# Altium schematic symbol library Intercom Gen2 Main PCB.SCHLIB: 188 symbols (part 1 of 2)
Pins are listed as number, name and electrical type; pins without a type are passive.

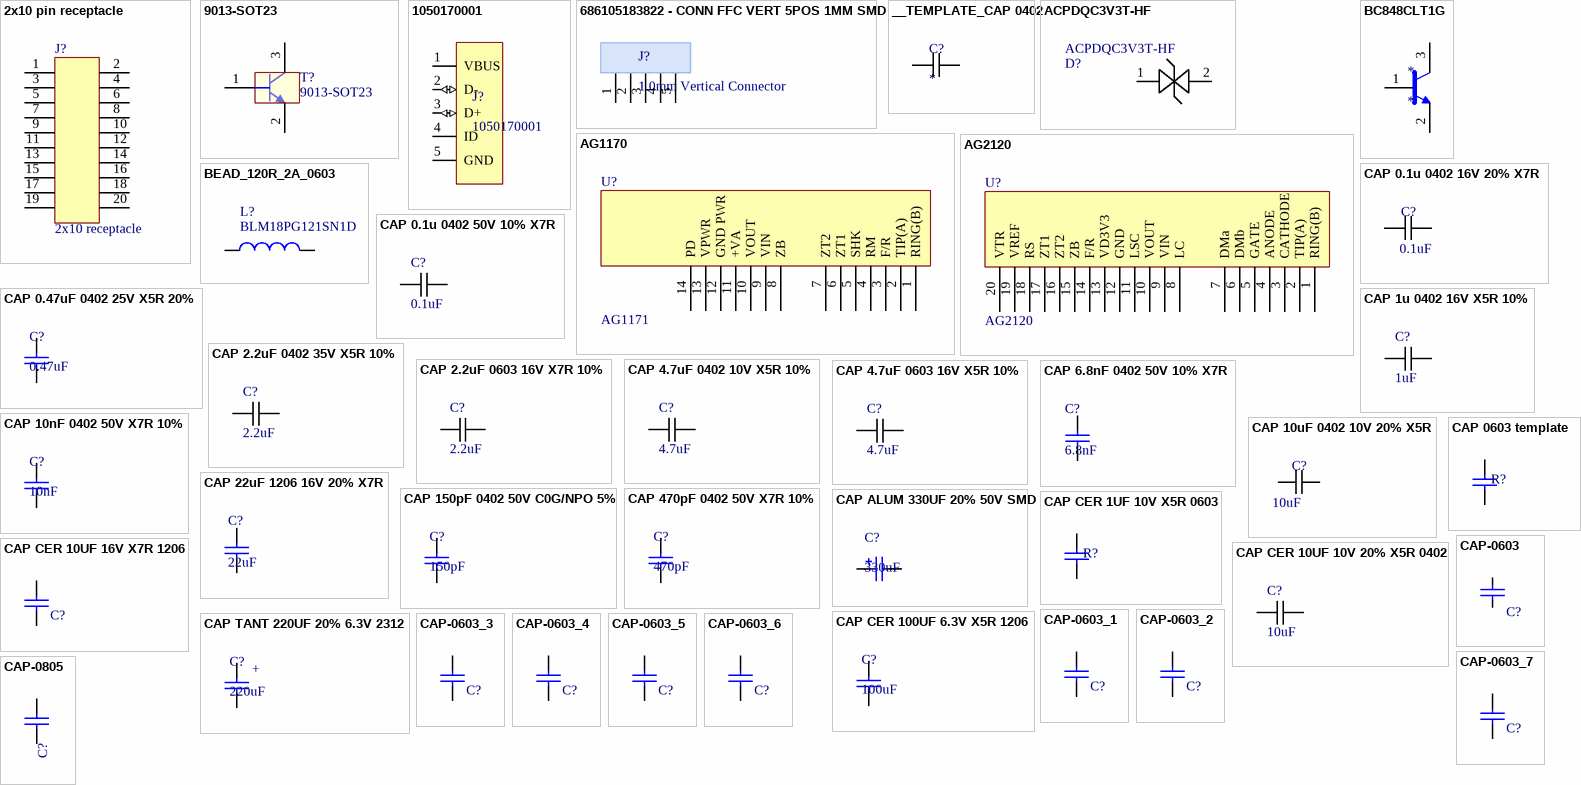
[diagram p0: symbols 2x10 pin receptacle to CAP-0805]

## 2x10 pin receptacle
designator J?, comment 2x10 receptacle
20 Position Receptacle Connector  Through Hole; Manufacturer:: 3M; Manufacturer Part#:: 929975-01-10-RK; Manufacturer Link:: http://multimedia.3m.com/mws/media/22500O/3mtm-boardmount-skt-100-100x-100strt-sldr-tails-ts0815.pdf; Value: 2x10 receptacle; Supplier 1: Digi-Key; Supplier 2: Mouser; Supplier Part Number 1: 929975E-01-10-ND; Supplier Part Number 2: 517-929975-01-10-RK
footprint 929975-01-10-RK (20 Position Receptacle Connector  Through Hole)
pins: 1, 2, 3, 4, 5, 6, 7, 8, 9, 10, 11, 12, 13, 14, 15, 16, 17, 18, 19, 20

## 9013-SOT23
designator T?
NPN Bipolar Transistor; Manuf_1: NXP; Manuf_Part_1: BSR14; Order: 1081310; ECCN_US/EU: EAR99/NEC; Revision: July-2002: Re-released for DXP Platform.; Distrib: FARNELL
simulation model NPN
footprint SOT23
footprint SOT-23
pins: 1 B, 2 E, 3 C

## 1050170001
designator J?
USB microB 5-Position  SMD, Right Angle; Manufacturer: Molex Inc; Manufacturer Part Number: 1050170001; Manufacturer Link: http://www.molex.com/pdm_docs/sd/1050170001_sd.pdf; Value: 1050170001; RoHS: Y; Temperature Range: -30°C ~ 85°C; Supplier 1: Digi-Key; Supplier 2: Mouser; Supplier Part Number 1: WM1399CT-ND; Supplier Part Number 2: 538-105017-0001
footprint 1050170001 (USB microB 5-Position, SMD, Right Angle)
footprint HS-1050170001 (USB microB 5-Position, SMD, Right Angle)
footprint HS-1050170001 - modified (USB microB 5-Position, SMD, Right Angle)
pins: 1 VBUS (power), 2 D- (io), 3 D+ (io), 4 ID, 5 GND (power)

## 686105183822 - CONN FFC VERT 5POS 1MM SMD
designator J?, comment 1.0mm Vertical Connector
5 Position FFC Connector Contacts, Vertical - 2 Sided 0.039" (1.00mm) Surface Mount; Manufacturer: Würth Elektronik; Value: 686105183822; Manufacturer Link: https://katalog.we-online.de/em/datasheet/686105183822.pdf; Manufacturer Part Number: 686105183822; RoHS: 3; Temperature Range: -25°C ~ 85°C; Supplier 1: Digi-Key; Supplier 2: Mouser; Supplier Part Number 1: 732-11357-1-ND; Supplier Part Number 2: 710-686105183822
footprint WR-FPC-SMT Vertical (Wurth Electronik Connector)
pins: 1, 2, 3, 4, 5

## __TEMPLATE_CAP 0402
designator C?
RoHS: Y; Value: *
footprint CAP_0402
footprint HS-CAP_0402
pins: 1, 2

## ACPDQC3V3T-HF
designator D?
TVS DIODE Bidir, ESD 30kV, Vwv=3.3V, VBr=3.6V, Vc=9.8V, Ipp=16A; Manufacturer: NXP Semiconductors; Manufacturer Part Number: ACPDQC3V3T-HF; Manufacturer Link: http://www.comchiptech.com/cms/UserFiles/ACPDQC3V3T-HF%20RevB352830.pdf; Supplier 1: Digi-Key; Supplier 2: Mouser; Value: ACPDQC3V3T-HF; Supplier Part Number 1: 641-1635-1-ND; Supplier Part Number 2: 750-ACPDQC3V3T-HF; RoHS: Yes; Temperature range °C: -40°C ~ 125°C
footprint SOD-923F_Bidir (0402C/SOD-923F 1mmx0.6mmx0.5mm)
footprint HS-SOD-923F_Bidir (0402C/SOD-923F 1mmx0.6mmx0.5mm)
pins: 1, 2

## AG1170
designator U?, comment AG1171
Interface Modules Ringing SLIC, low cost, SIL; Manufacturer: Silvertel; Value: AG1171; Manufacturer Link: https://www.mouser.ca/datasheet/2/1048/Ag1171-datasheet-Low-cost-ringing-SLIC-with-single-1804384.pdf; Manufacturer Part Number: AG1171; RoHS: *; Temperature Range: *; Supplier 1: Mouser; Supplier Part Number 1: 480-AG1171
footprint PHONE_AG1170_SLIC
pins: 1 RING(B), 2 TIP(A), 3 F/R, 4 RM, 5 SHK, 6 ZT1, 7 ZT2, 8 ZB, 9 VIN, 10 VOUT, 11 +VA, 12 GND PWR, 13 VPWR, 14 PD

## AG2120
designator U?
Interface Modules PSTN Interface; Manufacturer: Silvertel; Value: AG2120; Manufacturer Link: https://www.mouser.ca/datasheet/2/1048/Ag2120-datasheet-Full-feature-PSTN-interface-1804294.pdf; Manufacturer Part Number: AG2120; RoHS: *; Temperature Range: *; Supplier 1: Mouser; Supplier Part Number 1: 480-AG2120S
footprint PHONE_AG2120_PTSN
pins: 1 RING(B), 2 TIP(A), 3 CATHODE, 4 ANODE, 5 GATE, 6 DMb, 7 DMa, 8 LC, 9 VIN, 10 VOUT, 11 LSC, 12 GND, 13 VD3V3, 14 F/R, 15 ZB, 16 ZT2, 17 ZT1, 18 RS, 19 VREF, 20 VTR

## BC848CLT1G
designator *
Supplier 1: DigiKey; Supplier Part Number 1: BC848CLT1GOSDKR-ND; Supplier 2: Mouser; Supplier Part Number 2: 863-BC848CLT1G
footprint onSemi_SOT-23_N (Slightlly modified version of standard onSemi SOT−23 (TO−236) 2.90x1.30x1.00 1.90P footprint, pads slighly enlarged, medium courtyard / Reference: https://www.onsemi.com/pdf/datasheet/bc846alt1-d.pdf)
pins: 1 B, 2 E, 3 C

## BEAD_120R_2A_0603
designator L?, comment BLM18PG121SN1D
Bead,120R,2A,0603,BLM18PG121SN1D,MURATA; Manuf_Part_3: FCM1608KF-601T03; Manuf_2: TDK; Manuf_Part_2: MPZ1608S300A; Manuf_3: Tai-tech; Value: 100uH; Description_3: Bead,600R,350mA,0603,FCM1608KF-601T03,Tai-tech; Description_2: Bead,30R,5A,0603,MPZ1608S300A,TDK; Revision: July-2002: Re-released for DXP Platform.; ECCN_US/EU: n/a; Manuf_Part_1: BLM18PG121SN1D; Manuf_1: MURATA
footprint 0603 (Footprint not found)
footprint 0603L
pins: 1, 2

## CAP 0.1u 0402 16V 20% X7R
designator C?, comment 0.1uF
0.1µF ±20% 16V Ceramic Capacitor X7R 0402 (1005 Metric); Manufacturer: TDK Corporation; Manufacturer Part Number: CGA2B1X7R1C104M050BC; Manufacturer Link: https://product.tdk.com/info/en/catalog/datasheets/mlcc_automotive_general_en.pdf; RoHS: Y; Temperature Range: -55°C ~ 125°C; Supplier 1: Digi-Key; Supplier 2: Mouser; Supplier Part Number 1: 445-12242-1-ND; Supplier Part Number 2: 810-CGA2B1X7R1C104MC; Value: 0.1uF
footprint CAP_0402
footprint HS-CAP_0402
pins: 1, 2

## CAP 0.1u 0402 50V 10% X7R
designator C?, comment 0.1uF
0.1µF ±10% 50V Ceramic Capacitor X7R 0402 (1005 Metric); Manufacturer: Murata Electronics; Manufacturer Part Number: GCM155R71H104KE02D; Manufacturer Link: https://search.murata.co.jp/Ceramy/image/img/A01X/G101/ENG/GCM155R71H104KE02-01.pdf; Value: 0.1uF; Supplier 1: Digi-Key; Supplier 2: Mouser; Supplier Part Number 1: 490-10672-1-ND; Supplier Part Number 2: 81-GCM155R71H104KE2D; RoHS: Y; Temperature Range: -55°C ~ 125°C
footprint CAP_0402
footprint HS-CAP_0402
pins: 1, 2

## CAP 0.47uF 0402 25V X5R 20%
designator C?, comment 0.47uF
CAP CER 0.47UF 25V X5R 0402; Manufacturer: Murata Electronics; Manufacturer Part Number: GRT155R61E474ME01D; Manufacturer Link: https://search.murata.co.jp/Ceramy/image/img/A01X/G101/ENG/GRT155R61E474ME01-01.pdf; Value: 0.47uF; RoHS: 3; Temperature Range: -55°C ~ 85°C; Supplier 1: Digi-Key; Supplier 2: Mouser; Supplier Part Number 2: 81-GRT155R61E474ME1D; Supplier Part Number 1: 490-12270-1-ND
footprint CAP_0402
footprint HS-CAP_0402
pins: 1, 2

## CAP 1u 0402 16V X5R 10%
designator C?, comment 1uF
CAP 1u 0402 16V X5R 10%; Manufacturer: Samsung Electro-Mechanics; Manufacturer Part Number: CL05A105KO5NNNC; Manufacturer Link: https://media.digikey.com/pdf/Data%20Sheets/Samsung%20PDFs/CL05A105KO5NNNC_Spec_5-2-19.pdf; RoHS: ROHS3 Compliant; Temperature Range: -55°C ~ 85°C; Supplier 1: Digi-Key; Supplier 2: Newark; Supplier Part Number 1: 1276-1067-1-ND; Supplier Part Number 2: 82AC9182; Value: 1uF
footprint CAP_0402
footprint HS-CAP_0402
pins: 1, 2

## CAP 2.2uF 0402 35V X5R 10%
designator C?, comment 2.2uF
2.2µF ±10% 35V Ceramic Capacitor X5R 0402 (1005 Metric); Manufacturer: TDK; Manufacturer Part Number: C1005X5R1V225K050BC; Manufacturer Link: https://product.tdk.com/info/en/catalog/datasheets/mlcc_commercial_general_en.pdf; RoHS: ROHS3 Compliant; Temperature Range: -55°C ~ 85°C; Supplier 1: Digi-Key; Supplier 2: Mouser; Supplier Part Number 2: 810-C1005X5R1V225K; Value: 2.2uF; Supplier Part Number 1: 445-9028-1-ND
footprint CAP_0402
footprint HS-CAP_0402
pins: 1, 2

## CAP 2.2uF 0603 16V X7R 10%
designator C?, comment 2.2uF
2.2µF ±10% 16V Ceramic Capacitor X7R 0603 (1608 Metric); Manufacturer: Taiyo Yuden; Manufacturer Part Number: EMK107BB7225KA-T; Manufacturer Link: https://www.yuden.co.jp/productdata/catalog/mlcc06_e.pdf; RoHS: ROHS3 Compliant; Temperature Range: -55°C ~ 125°C; Value: 2.2uF; Supplier 1: Digi-Key; Supplier 2: Mouser; Supplier Part Number 1: 587-5835-1-ND; Supplier Part Number 2: 81-GRM188R71A225KE15
footprint Cap_0603_M (Yageo KEMET Maximum Density (Level A) Footprint, reference at pate centre. Datasheet: https://www.yageogroup.com/content/datasheet/asset/file/KEM_C1006_X5R_SMD)
footprint Cap_0603_N (Yageo KEMET Nominal Density Footprint using Nominal Land Protusion (Level B), reference at pate centre. Datasheet: https://www.yageogroup.com/content/datasheet/asset/file/KEM_C1006_X5R_SMD)
pins: 1, 2

## CAP 4.7uF 0402 10V X5R 10%
designator C?, comment 4.7uF
4.7µF ±10% 10V Ceramic Capacitor X5R 0402 (1005 Metric); Manufacturer: TDK Corporation; Manufacturer Part Number: C1005X5R1A475K050BC; Manufacturer Link: https://datasheet.datasheetarchive.com/originals/dk/DKDS-39/11099.pdf; RoHS: ROHS3 Compliant; Temperature Range: -55°C ~ 85°C; Supplier 1: Digi-Key; Supplier 2: Mouser; value: 4.7uF; Supplier Part Number 1: 445-13820-1-ND; Supplier Part Number 2: 810-C1005X5R1A475KBC
footprint CAP_0402
footprint HS-CAP_0402
footprint CAP_0402-HD (Chip Capacitor 0402 High Density)
pins: 1, 2

## CAP 4.7uF 0603 16V X5R 10%
designator C?, comment 4.7uF
4.7µF ±10% 16V Ceramic Capacitor X5R 0603 (1608 Metric); Manufacturer: Taiyo Yuden; Manufacturer Part Number: EMK107ABJ475KA-T; Manufacturer Link: https://www.yuden.co.jp/productdata/catalog/mlcc06_e.pdf; RoHS: ROHS3 Compliant; Temperature Range: -55°C ~ 85°C; Value: 4.7uF; Supplier 1: Digi-Key; Supplier 2: Mouser; Supplier Part Number 1: 587-2786-1-ND; Supplier Part Number 2: 963-EMK107ABJ475KA-T
footprint CAP-0603
pins: 1, 2

## CAP 6.8nF 0402 50V 10% X7R
designator C?, comment 6.8nF
6800pF ±10% 50V Ceramic Capacitor X7R 0402 (1005 Metric); Manufacturer: Yageo; Manufacturer Part Number: CC0402KRX7R9BB682; Manufacturer Link: https://www.yageo.com/upload/media/product/productsearch/datasheet/mlcc/UPY-GPHC_X7R_6.3V-to-50V_18.pdf; Value: 6.8nF; RoHS: 3; Temperature Range: -55°C ~ 125°C; Supplier 1: Digi-Key; Supplier 2: Mouser; Supplier Part Number 1: 311-1726-1-ND; Supplier Part Number 2: 603-CC402KRX7R9BB682
footprint CAP_0402
footprint HS-CAP_0402
pins: 1, 2

## CAP 10nF 0402 50V X7R 10%
designator C?, comment 10nF
10000pF ±10% 50V Ceramic Capacitor X7R 0402 (1005 Metric); Manufacturer: Yageo; Manufacturer Part Number: CC0402KRX7R9BB103; Manufacturer Link: https://www.yageo.com/upload/media/product/productsearch/datasheet/mlcc/UPY-GPHC_X7R_6.3V-to-50V_18.pdf; Value: 10nF; RoHS: 3; Temperature Range: -55°C ~ 125°C; Supplier 1: Digi-Key; Supplier 2: Mouser; Supplier Part Number 1: 311-1349-1-ND; Supplier Part Number 2: 603-CC402KRX7R9BB103
footprint CAP_0402
footprint HS-CAP_0402
pins: 1, 2

## CAP 10uF 0402 10V 20% X5R
designator C?, comment 10uF
CAP CER 10UF 10V 20% X5R 0402; Manufacturer: Samsung Electro-Mechanics America, Inc; Manufacturer Part Number: CL05A106MP5NUNC; Manufacturer Link: http://www.digikey.ca/product-search/en?pv7=2&pv14=4&FV=fff40002%2Cfff8000b&k=10uF+0402&mnonly=0&newproducts=0&ColumnSort=0&page=1&stock=1&quantity=0&ptm=0&fid=0&pageSize=25; Supplier 1: Digi-Key; Supplier 2: Future Electronics; Supplier Part Number 1: 1276-1450-1-ND; Supplier Part Number 2: CL05A106MP5NUNC-CUTT; Temperature Range: -55°C ~ 85°C; RoHS: ROHS3 Compliant; Value: 10uF
footprint CAP_0402
footprint HS-CAP_0402
footprint CAP_0402-HD (Chip Capacitor 0402 High Density)
pins: 1, 2

## CAP 22uF 1206 16V 20% X7R
designator C?, comment 22uF
22µF ±20% 16V Ceramic Capacitor X7R 1206 (3216 Metric); Manufacturer: Taiyo Yuden; Manufacturer Part Number: EMK316BB7226ML-T; Manufacturer Link: http://ds.yuden.co.jp/TYCOMPAS/ut/detail.do?productNo=EMK316BB7226ML-T&fileName=EMK316BB7226ML-T_SS&mode=specSheetDownload; Value: 22uF; Supplier 1: Digi-Key; Supplier Part Number 1: 587-4319-1-ND; Supplier 2: Arrow; Supplier Part Number 2: EMK316BB7226ML-T**MULT1; Temperature Range: -55°C ~ 125°C
footprint CAP-1206
pins: 1, 2

## CAP 150pF 0402 50V C0G/NPO 5%
designator C?, comment 150pF
150pF ±5% 50V Ceramic Capacitor C0G, NP0 0402 (1005 Metric); Manufacturer: Yageo; Manufacturer Part Number: CC0402JRNPO9BN151; Manufacturer Link: https://www.yageo.com/upload/media/product/productsearch/datasheet/mlcc/UPY-GP_NP0_16V-to-50V_18.pdf; Value: 150pF; RoHS: 3; Temperature Range: -55°C ~ 125°C; Supplier 1: Digi-Key; Supplier 2: Mouser; Supplier Part Number 1: 311-1025-1-ND; Supplier Part Number 2: 603-CC402JRNPO9BN151
footprint CAP_0402
footprint HS-CAP_0402
pins: 1, 2

## CAP 470pF 0402 50V X7R 10%
designator C?, comment 470pF
470pF ±10% 50V Ceramic Capacitor X7R 0402 (1005 Metric); Manufacturer: Yageo; Manufacturer Part Number: CC0402KRX7R9BB471; Manufacturer Link: https://www.yageo.com/upload/media/product/productsearch/datasheet/mlcc/UPY-GPHC_X7R_6.3V-to-50V_18.pdf; Value: 470pF; RoHS: 3; Temperature Range: -55°C ~ 125°C; Supplier 1: Digi-Key; Supplier 2: Mouser; Supplier Part Number 1: 311-1028-1-ND; Supplier Part Number 2: 603-CC402KRX7R9BB471
footprint CAP_0402
footprint HS-CAP_0402
pins: 1, 2

## CAP 0603 template
designator R?
footprint CAP-0603
pins: 1, 2

## CAP ALUM 330UF 20% 50V SMD
designator C?, comment 330uF
330µF 50V Aluminum Electrolytic Capacitors Radial, Can - SMD 120mOhm @ 100kHz 5000 Hrs @ 105°C; Manufacturer: Panasonic Electronic Components; Manufacturer Part Number: EEE-FT1H331GP; Manufacturer Link: https://b2b-api.panasonic.eu/file_stream/pids/fileversion/3127; Value: 330uF; RoHS: 3; Temperature Range: -55°C ~ 105°C; Supplier 1: Digi-Key; Supplier Part Number 1: 732-8514-1-ND
footprint CAP ALUM 330UF 20% 50V SMD
pins: 1, 2

## CAP CER 1UF 10V X5R 0603
designator R?, comment 1uF  (value not drawn)
1µF ±10% 10V Ceramic Capacitor X5R 0603 (1608 Metric); Manufacturer: Samsung Electro-Mechanics; Manufacturer Part Number: CL10A105KP8NNNC; Value: 1uF; Manufacturer Link: http://weblib.samsungsem.com/mlcc/mlcc-ec-data-sheet.do?partNumber=CL10A105KP8NNN; RoHS: 3; Temperature Range: -55°C ~ 85°C; Supplier 1: Digi-Key; Supplier 2: Future Electronics; Supplier Part Number 1: 1276-1182-1-ND; Supplier Part Number 2: 2588283
footprint CAP-0603
pins: 1, 2

## CAP CER 10UF 10V 20% X5R 0402
designator C?, comment 10uF
CAP CER 10UF 10V 20% X5R 0402; Manufacturer: Samsung Electro-Mechanics America, Inc; Manufacturer Part Number: CL05A106MP5NUNC; Manufacturer Link: http://www.digikey.ca/product-search/en?pv7=2&pv14=4&FV=fff40002%2Cfff8000b&k=10uF+0402&mnonly=0&newproducts=0&ColumnSort=0&page=1&stock=1&quantity=0&ptm=0&fid=0&pageSize=25; Supplier 1: Digi-Key; Supplier Part Number 1: 1276-1450-1-ND; Value: 10uF
footprint CAP_0402
footprint HS-CAP_0402
pins: 1, 2

## CAP CER 10UF 16V X7R 1206
designator C?, comment 10uF  (value not drawn)
10µF ±20% 16V Ceramic Capacitor X7R 1206 (3216 Metric); Manufacturer: Samsung Electro-Mechanics; Manufacturer Part Number: CL31B106MOHNNNE; Value: 10uF; Manufacturer Link: https://media.digikey.com/pdf/Data%20Sheets/Samsung%20PDFs/CL_Series_MLCC_ds.pdf; RoHS: 3; Temperature Range: -55°C ~ 125°C; Supplier 1: Digi-Key; Supplier 2: Future Electronics; Supplier Part Number 1: 1276-6641-1-ND; Supplier Part Number 2: 2114712
footprint CAP-1206
pins: 1, 2

## CAP CER 100UF 6.3V X5R 1206
designator C?, comment 100uF
100µF ±20% 6.3V Ceramic Capacitor X5R 1206 (3216 Metric); Manufacturer: Murata Electronics; Manufacturer Part Number: GRM31CR60J107ME39K; Manufacturer Link: https://www.murata.com/~/media/webrenewal/support/library/catalog/products/capacitor/mlcc/c02e.ashx?la=en-us; Value: 100uF; RoHS: 3; Temperature Range: -55°C ~ 85°C; Supplier 1: Digi-Key; Supplier 2: Mouser; Supplier Part Number 1: 490-7217-1-ND; Supplier Part Number 2: 81-GRM31CR60J107ME9K
footprint CAP-1206
pins: 1, 2

## CAP TANT 220UF 20% 6.3V 2312
designator C?, comment 220uF
220µF Molded Tantalum Capacitors 6.3V 2312 (6032 Metric) 1.2Ohm; Manufacturer: KEMET; Manufacturer Part Number: T491C227M006AT; Manufacturer Link: https://api.kemet.com/component-edge/download/datasheet/T491C227M006AT.pdf; Value: 220uF; RoHS: 3; Temperature Range: -55°C ~ 125°C; Supplier 1: Digi-Key; Supplier 2: Mouser; Supplier Part Number 1: 399-3748-1-ND; Supplier Part Number 2: 80-T491C227M006
footprint KEMET TANT Size C - 2312 (Molded Capacitor, 2-Leads, Body 6.00x3.20mm, IPC Low Density)
pins: 1, 2
text: +

## CAP-0603
designator C?  (value not drawn)
Value: 6.8nF
footprint RES-0402
footprint CAP-0603
footprint CAP-0603
footprint CAP-0603
pins: 1, 2

## CAP-0603_1
designator C?, comment CAP-0603  (value not drawn)
Value: 150pF
footprint RES-0402
footprint CAP-0603
footprint CAP-0603
footprint CAP-0603
pins: 1, 2

## CAP-0603_2
designator C?, comment CAP-0603  (value not drawn)
Value: 100nF
footprint RES-0402
footprint CAP-0603
footprint CAP-0603
footprint CAP-0603
pins: 1, 2

## CAP-0603_3
designator C?, comment CAP-0603  (value not drawn)
Value: 10nF
footprint RES-0402
footprint CAP-0603
footprint CAP-0603
footprint CAP-0603
pins: 1, 2

## CAP-0603_4
designator C?, comment CAP-0603  (value not drawn)
Value: 2.2uF
footprint RES-0402
footprint CAP-0603
footprint CAP-0603
footprint CAP-0603
pins: 1, 2

## CAP-0603_5
designator C?, comment CAP-0603  (value not drawn)
Value: 0.47uF
footprint RES-0402
footprint CAP-0603
footprint CAP-0603
footprint CAP-0603
pins: 1, 2

## CAP-0603_6
designator C?, comment CAP-0603  (value not drawn)
Value: 470pF
footprint RES-0402
footprint CAP-0603
footprint CAP-0603
footprint CAP-0603
pins: 1, 2

## CAP-0603_7
designator C?, comment CAP-0603  (value not drawn)
Value: 1uF
footprint RES-0402
footprint CAP-0603
footprint CAP-0603
footprint CAP-0603
pins: 1, 2

## CAP-0805
designator C?  (value not drawn)
VALUE: 10uF
footprint CAP-0805
pins: 1, 2

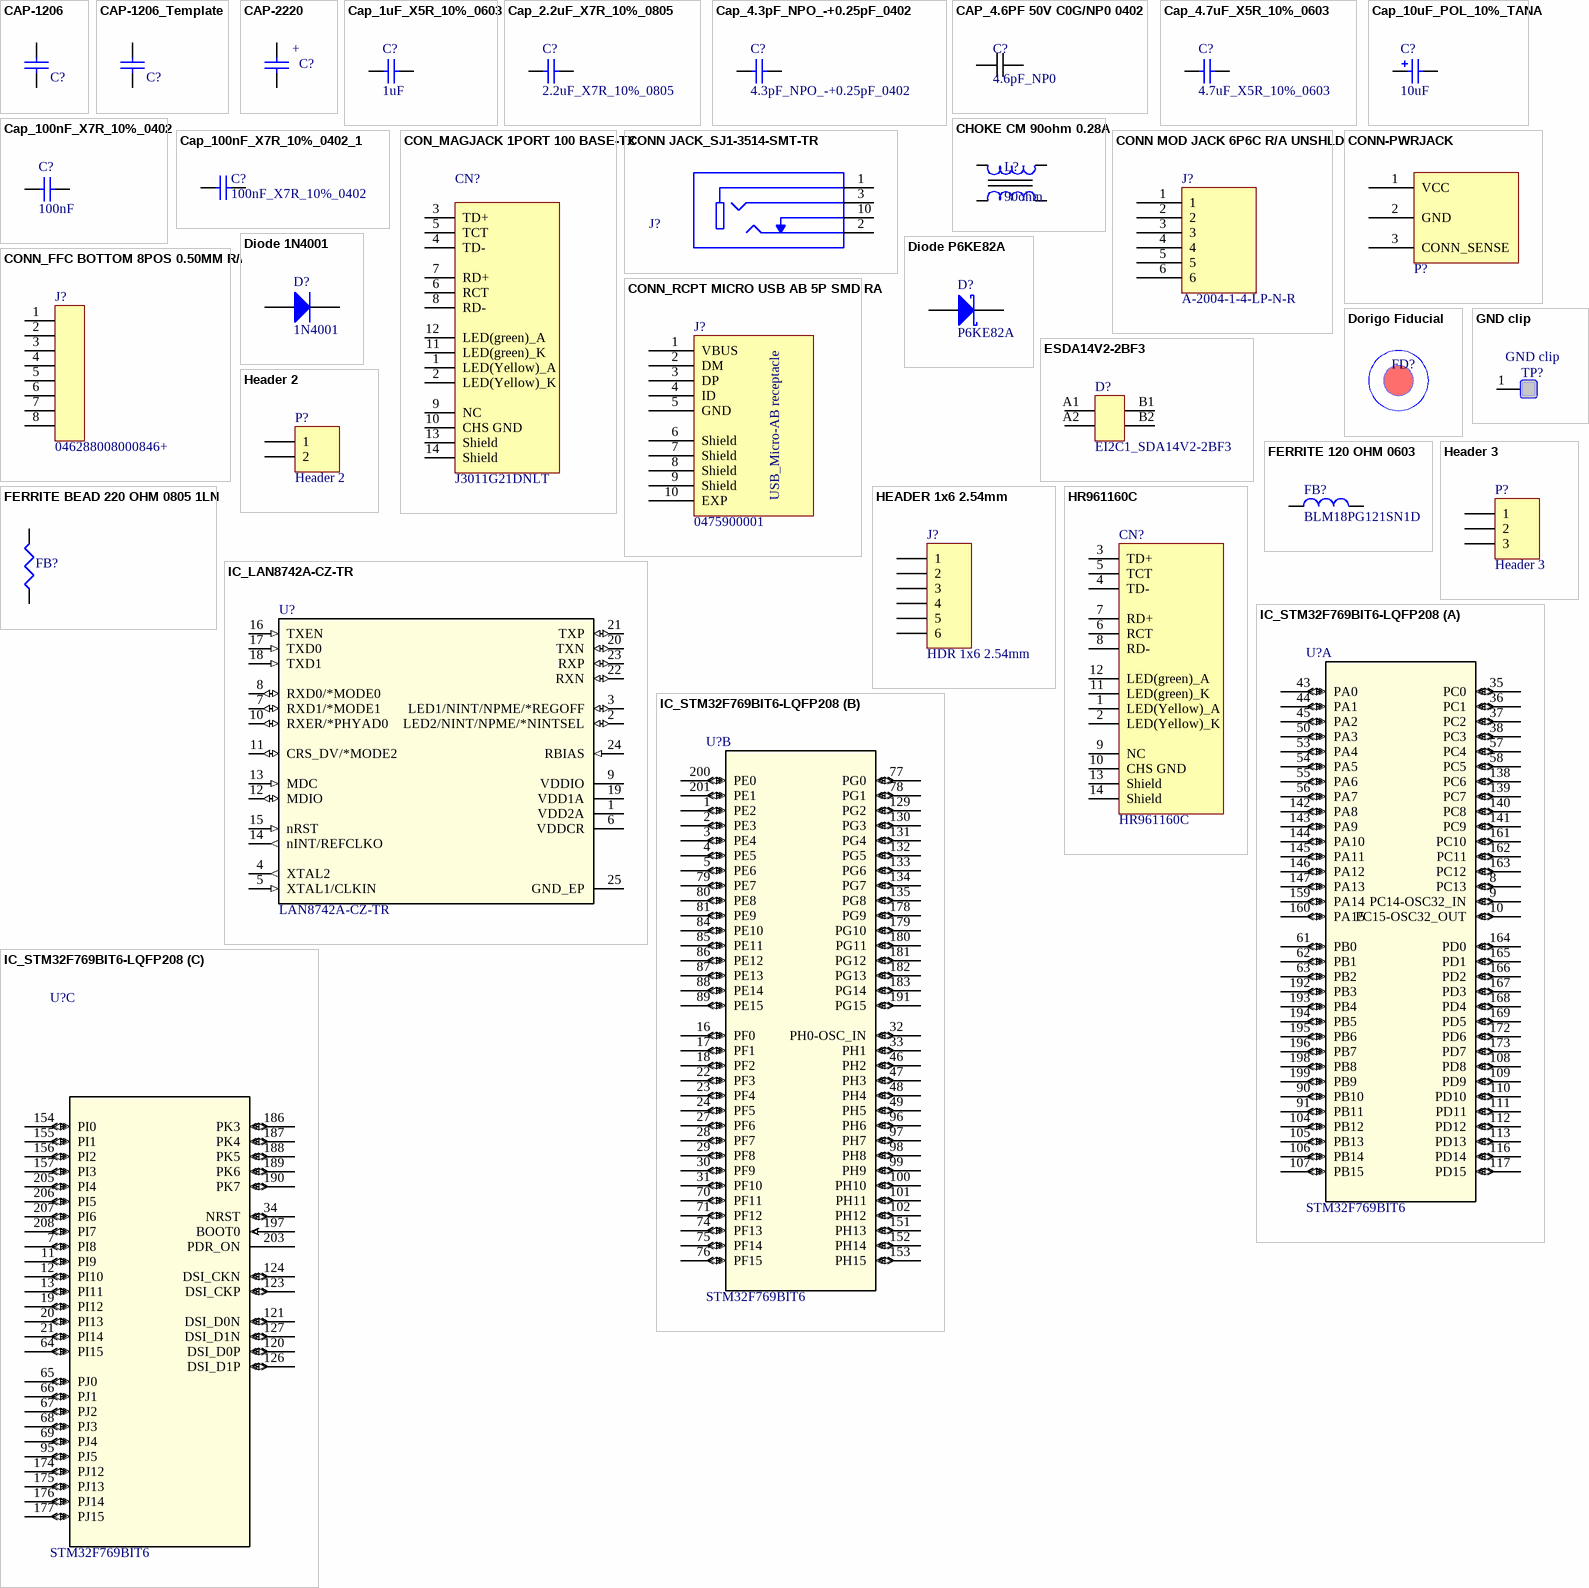
[diagram p1: symbols CAP-1206 to IC_STM32F769BIT6-LQFP208]

## CAP-1206
designator C?  (value not drawn)
VALUE: 22uF
footprint CAP-1206
pins: 1, 2

## CAP-1206_Template
designator C?  (value not drawn)
Value: *; Manufacturer: *; Manufacturer Link: *; Manufacturer Part Number: *; RoHS: *; Temperature Range: *
footprint CAP-1206
pins: 1, 2

## CAP-2220
designator C?
pins: 1, 2
text: +

## Cap_1uF_X5R_10%_0603
designator C?, comment 1uF
Capacitor,1uF,16V,X5R,10%,0603,YAGEO; Manuf_Part_1: CC0603KRX5R7BB105; Revision: July-2002: Re-released for DXP Platform.; Value: 1uF; Order: CC0603KRX5R7BB105; Manuf_1: YAGEO; ECCN_US/EU: n/a
simulation model CAP (Capacitor)
signal-integrity model Cap
footprint 0603C
pins: 1, 2

## Cap_2.2uF_X7R_10%_0805
designator C?, comment 2.2uF_X7R_10%_0805
Capacitor,2.2uF,16V, X7R,10%,0805,YAGEO; Manuf_Part_1: CC0805KKX7R7BB225; Revision: July-2002: Re-released for DXP Platform.; Value: 2.2uF; Order: CC0805KKX7R7BB225; Manuf_1: YAGEO; ECCN_US/EU: n/a
simulation model CAP (Capacitor)
signal-integrity model Cap
footprint 0805C
footprint TAN-A
pins: 1, 2

## Cap_4.3pF_NPO_-+0.25pF_0402
designator C?, comment 4.3pF_NPO_-+0.25pF_0402
Capacitor, 4.3pF, 16V, NPO, -+0.25pF, 0402, KEMET; Manuf_1: AVX; Manuf_Part_1: C0402C439C4GACTU; Order: C0402C439C4GACTU-ND; Revision: July-2002: Re-released for DXP Platform.; Value: 4.3pF; ECCN_US/EU: n/a; Distrib: DIGIKEY
simulation model CAP (Capacitor)
signal-integrity model Cap
footprint 0402C
pins: 1, 2

## CAP_4.6PF 50V C0G/NP0 0402
designator C?, comment 4.6pF_NP0
4.6pF ±0.25pF 50V Ceramic Capacitor C0G, NP0 0402 (1005 Metric); Manufacturer: Murata Electronics; Manufacturer Part Number: GCQ1555C1H4R6CB01D; Manufacturer Link: https://search.murata.co.jp/Ceramy/image/img/A01X/G101/ENG/GCQ1555C1H4R6CB01-01.pdf; RoHS: ROHS3 Compliant; Temperature Range: -55°C~125°C; Supplier 1: Digi-Key; Supplier 2: Mouser; Supplier Part Number 1: 490-17479-1-ND; Supplier Part Number 2: 81-GCQ1555C1H4R6CB1D; Value: 4.6pF_NP0
footprint CAP_0402
footprint HS-CAP_0402
pins: 1, 2

## Cap_4.7uF_X5R_10%_0603
designator C?, comment 4.7uF_X5R_10%_0603
Capacitor,4.7uF,16V, X5R,10%,0603,YAGEO; Manuf_Part_1: CC0603KRX5R7BB475; Order: CC0603KRX5R7BB105; Revision: July-2002: Re-released for DXP Platform.; Value: 4.7uF; Manuf_1: YAGEO; ECCN_US/EU: n/a
simulation model CAP (Capacitor)
signal-integrity model Cap
footprint 0603C
pins: 1, 2

## Cap_10uF_POL_10%_TANA
designator C?, comment 10uF
Polarized Capacitor,10uF,10V,10%,typeA,VISHAY; Manuf_Part_1: 293D106X9010A2TE3; Revision: July-2002: Re-released for DXP Platform.; Value: 10uF; Manuf_1: VISHAY; Order: *; ECCN_US/EU: n/a
simulation model CAP (Capacitor)
signal-integrity model C200M
footprint TAN-A
pins: 1, 2

## Cap_100nF_X7R_10%_0402
designator C?, comment 100nF
Capacitor,100nF,16V,X7R,10%,0402,YAGEO; Manuf_Part_1: CC0402KRX7R7BB104; Revision: July-2002: Re-released for DXP Platform.; Value: 100nF; Order: CC0402KRX7R7BB104; Manuf_1: YAGEO
simulation model CAP (Capacitor)
signal-integrity model Cap
footprint 0402C
pins: 1, 2

## Cap_100nF_X7R_10%_0402_1
designator C?, comment 100nF_X7R_10%_0402
Capacitor,100nF,16V,X7R,10%,0402,YAGEO; Manuf_Part_1: CC0402KRX7R7BB104; Revision: July-2002: Re-released for DXP Platform.; Value: 100nF; Order: CC0402KRX7R7BB104; Manuf_1: YAGEO; ECCN_US/EU: n/a
simulation model CAP (Capacitor)
signal-integrity model Cap
footprint 0402C
pins: 1, 2

## CHOKE CM 90ohm 0.28A
designator L?, comment 90ohm
CHOKE CM 90ohm 0.28A; Manufacturer: Murata; Manufacturer Part Number: DLW21SZ900HQ2L; Manufacturer Link: https://www.murata.com/~/media/webrenewal/support/library/catalog/products/emc/emifil/c51e.ashx; Value: 90ohm; Supplier 1: Digi-Key; Supplier 2: Mouser; Supplier Part Number 1: 490-14402-1-ND; Supplier Part Number 2: 81-DLW21SZ900HQ2L
footprint CHOKE CM 500ohm 0.3A
footprint HS-CHOKE CM 500ohm 0.3A
pins: 1, 2, 3, 4

## CON_MAGJACK 1PORT 100 BASE-TX
designator CN?, comment J3011G21DNLT
1 Port RJ45 Magjack Connector Surface Mount 10/100 Base-TX, AutoMDIX; Manufacturer: Pulse Electronics Network; Manufacturer Part Number: J3011G21DNLT; Manufacturer Link: https://productfinder.pulseeng.com/productSearch/J3011G21DNLT; Value: J3011G21DNLT; RoHS: Y; Temperature Range: 0°C ~ 70°C; Supplier 1: Digi-Key; Supplier 2: Mouser; Supplier Part Number 1: 553-1763-1-ND; Supplier Part Number 2: 673-J3011G21DNLT
footprint CON_RJ45_J3011G21DNLT (Pulse J3 Series)
pins: 1 LED(Yellow)_A, 2 LED(Yellow)_K, 3 TD+, 4 TD-, 5 TCT, 6 RCT, 7 RD+, 8 RD-, 9 NC, 10 CHS GND, 11 LED(green)_K, 12 LED(green)_A, 13 Shield, 14 Shield

## CONN JACK_SJ1-3514-SMT-TR
designator J?, comment SJ1-3514-SMT-TR  (value not drawn)
CONN JACK STEREO 3.5MM SMD R/A; Manufacturer: CUI Devices; Value: SJ1-3514-SMT-TR; Manufacturer Link: https://www.cuidevices.com/product/resource/digikeypdf/sj1-351x-smt.pdf; Manufacturer Part Number: SJ1-3514-SMT-TR; RoHS: Y; Temperature Range: -25°C ~ 85°C; Supplier 1: Digi-Key; Supplier 2: Mouser; Supplier Part Number 1: CP1-3514SJCT-ND; Supplier Part Number 2: 490-SJ1-3514-SMT-TR
footprint CUI_SJ1-3514-SMT (CONN JACK STEREO 3.5MM SMD R/A)
pins: 1, 2, 3, 10

## CONN MOD JACK 6P6C R/A UNSHLD
designator J?, comment A-2004-1-4-LP-N-R
Jack Modular Connector 6p6c (RJ11, RJ12, RJ14, RJ25) 90° Angle (Right) Unshielded; Manufacturer: Assmann WSW Components; Value: A-2004-1-4-LP-N-R; Manufacturer Link: http://www.assmann-wsw.com/fileadmin/datasheets/ASS_7320_CO.pdf; Manufacturer Part Number: A-2004-1-4-LP-N-R; RoHS: 3; Temperature Range: -40°C ~ 85°C; Supplier 1: Digi-Key; Supplier 2: Future Electronics; Supplier Part Number 1: AE10383-ND; Supplier Part Number 2: 4074972
footprint A-2004-0-x-N (RJ11)
pins: 1, 2, 3, 4, 5, 6

## CONN-PWRJACK
designator P?, comment PJ-066A  (value not drawn)
Power Barrel Connector Jack 2.10mm ID (0.083"), 5.50mm OD (0.217") Panel Mount, Through Hole, Right Angle; Manufacturer: CUI Devices; Value: PJ-066A; Manufacturer Link: https://www.cuidevices.com/product/resource/digikeypdf/pj-066a.pdf; Manufacturer Part Number: PJ-066A; RoHS: Y; Temperature Range: -25°C ~ 70°C; Supplier 1: Digi-Key; Supplier 2: Mouser; Supplier Part Number 1: CP-066A-ND; Supplier Part Number 2: 490-PJ-066A
footprint CONN-PWRJACK-2.1X5.5X9.5MM-RA-TH (Right Angle Power Jack)
footprint CONN-PWRJACK-2.1X5.5X9.5MM-RA-TH-PJ-0066 (Right Angle Power Jack)
pins: 1 VCC, 2 GND, 3 CONN_SENSE

## CONN_FFC BOTTOM 8POS 0.50MM R/A
designator J?, comment 046288008000846+
8 Position FFC, FPC Connector Contacts, Bottom 0.020" (0.50mm) Surface Mount, Right Angle; Manufacturer: Kyocera International Inc. Electronic Components; Manufacturer Part Number: 046288008000846+; Manufacturer Link: https://global.kyocera.com/prdct/electro/product/pdf/6288.pdf; Value: 046288008000846+; RoHS: Y; Temperature Range: -40°C~105°C; Supplier 1: Digi-Key; Supplier 2: Mouser; Supplier Part Number 1: 478-5454-1-ND; Supplier Part Number 2: 581-046288008000846+
footprint CON_046288008000846+ (Kyocera ZIF, 0.5mm, 8 contacts, bottom)
footprint HS-CON_046288008000846+ (Kyocera ZIF, 0.5mm, 8 contacts, bottom)
pins: 1, 2, 3, 4, 5, 6, 7, 8 0

## CONN_RCPT MICRO USB AB 5P SMD RA
designator J?, comment 0475900001
USB - micro AB  Receptacle Connector 5 Position Surface Mount, Right Angle; Through Hole; Manufacturer: Molex; Manufacturer Part Number: 0475900001; Manufacturer Link: https://www.molex.com/pdm_docs/sd/475900001_sd.pdf; Value: 0475900001; RoHS: ROHS3 Compliant; Temperature Range: -35°C ~ 85°C; Supplier 1: Digi-Key; Supplier 2: Newark; Supplier Part Number 1: WM17144CT-ND; Supplier Part Number 2: 40P3750
footprint CON_USBMICROAB_MOLEX_47590-0001_H3
pins: 1 VBUS, 2 DM, 3 DP, 4 ID, 5 GND, 6 Shield, 7 Shield, 8 Shield, 9 Shield, 10 EXP
text: USB_Micro-AB receptacle

## Diode 1N4001
designator D?, comment 1N4001
Diode Standard 50V 1A Through Hole DO-41; Manufacturer: Comchip Technology; Manufacturer Part Number: 1N4001-G; Value: 1N4001; Manufacturer Link: https://www.comchiptech.com/admin/files/product/1N4001-G%20Thru.%201N4007-G%20RevB.pdf; RoHS: 3; Temperature Range: -55°C ~ 150°C; Supplier 1: Digi-Key; Supplier 2: Mouser; Supplier Part Number 1: 641-1310-1-ND; Supplier Part Number 2: 750-1N4001-G
footprint DO-41 (Diode, Axial; Body 5.2 x 2.7 mm (LxDia. max), Lead Dia. 0.86 mm (max))
simulation model 1N4001 (DIODE)
signal-integrity model 1N4001
pins: 1 A, 2 K

## Diode P6KE82A
designator D?, comment P6KE82A
DIODE,  TVS,  8.2V,  600W,  2DO-15; Manufacturer: Taiwan Semiconductor; Manufacturer Part Number: P6KE82A; RoHS: 3; Value: P6KE82A; Temperature Range: -55°C ~ 175°C; Manufacturer Link: https://www.taiwansemi.com/products/datasheet/P6KE%20SERIES_M1602.pdf; Supplier 1: Digi-Key; Supplier 2: Mouser; Supplier Part Number 1: P6KE82AFSCT-ND; Supplier Part Number 2: 821-P6KE8.2A
footprint DO-204AL (Diode, Axial; Body 5.2 x 2.7 mm (LxDia. max), Lead Dia. 0.86 mm (max))
simulation model 11DQ03 (DIODE)
pins: 1 A, 2 K

## Dorigo Fiducial
designator FD?  (no BOM)
0.5mm diameter + 0.5mm solder mask clearance
footprint Fiducial_Dorigo (0.5mm diameter + 0.5mm solder mask clearance)

## ESDA14V2-2BF3
designator D?, comment EI2C1_SDA14V2-2BF3
Quad bidirectional Transil array for ESD protection; Manuf_1: STM; Manuf_Part_1: ESDA14V2-2BF3; ECCN_US/EU: EAR99/NEC; Provided: ST; Ref St: 9179040; Distrib: ST
footprint BGA4_1X1 (Footprint not found)
footprint BGA4_0R4_0R8X0R8
pins: A1, A2, B1, B2

## FERRITE 120 OHM 0603
designator FB?, comment BLM18PG121SN1D
120 Ohms @ 100MHz 1 Power Line Ferrite Bead 0603 (1608 Metric) 2A 50mOhm; Manufacturer: Murata Electronics; Manufacturer Part Number: BLM18PG121SN1D; Manufacturer Link: https://www.murata.com/en-us/products/productdata/8796738650142/ENFA0003.pdf; Value: BLM18PG121SN1D; RoHS: ROHS3 Compliant; Temperature Range: -55°C ~ 125°C; Supplier 1: Digi-Key; Supplier 2: Mouser; Supplier Part Number 1: 490-1038-1-ND; Supplier Part Number 2: 81-BLM21AG121SN1D
footprint IND_BLM18P-0603 (Ferrite Bead-0603)
pins: 1, 2

## FERRITE BEAD 220 OHM 0805 1LN
designator FB?, comment 220R 3A  (value not drawn)
220 Ohms @ 100MHz 1 Power Line Ferrite Bead 0805 (2012 Metric) 3A 40mOhm; Manufacturer: TDK Corporation; Manufacturer Part Number: MPZ2012S221AT000; Value: 220R 3A; Manufacturer Link: https://product.tdk.com/info/en/catalog/datasheets/beads_commercial_power_mpz2012_en.pdf?ref_disty=digikey; RoHS: 3; Temperature Range: -55°C ~ 125°C; Supplier 1: Digi-Key; Supplier Part Number 1: 240-2392-1-ND
footprint FB_0805 (Designed for MI0805M221R-10, Maximum density courtyard. Datasheet:https://www.laird.com/sites/default/files/mi0805m221r-10-datasheet.pdf)
pins: 1, 2

## GND clip
designator TP?
PC Test Point, Compact Phosphor Bronze, Silver Plating Surface Mount Mounting Type; Manufacturer: Keystone Electronics; Manufacturer Part Number: 5016; Manufacturer Link: https://www.keyelco.com/userAssets/file/M65p55.pdf; RoHS: Y; Supplier 1: Digi-Key; Supplier 2: Mouser; Supplier Part Number 1: 36-5016CT-ND; Supplier Part Number 2: 534-5016; Value: GND clip
footprint GND CLIP (GND Test Point)
pins: 1

## HEADER 1x6 2.54mm
designator J?, comment HDR 1x6 2.54mm
HEADER TH 6POS 0.100" single row, Tin; Manufacturer: Samtec; Manufacturer Part Number: HTSW-106-07-T-S; Manufacturer Link: http://suddendocs.samtec.com/catalog_english/htsw_th.pdf; Value: HDR 1x6 2.54mm; Supplier 1: Digi-Key; Supplier 2: Farnell; Supplier Part Number 2: 200-HTSW10607TS; Supplier Part Number 1: SAM8925-ND; RoHS: Y; Temperature Range °C: -55~+105
footprint HEADER 1X6 2.54MM
pins: 1, 2, 3, 4, 5, 6

## Header 2
designator P?
Header, 2-Pin; LatestRevisionDate: 17-Jul-2002; LatestRevisionNote: Re-released for DXP Platform.; Publisher: Altium Limited
footprint HDR1X2 (Connector; Header; 2 Position)
signal-integrity model Connector
pins: 1, 2

## Header 3
designator P?
Header, 3-Pin; LatestRevisionDate: 17-Jul-2002; LatestRevisionNote: Re-released for DXP Platform.; Publisher: Altium Limited
footprint HDR1X3 (Connector; Header; 3 Position)
signal-integrity model Connector
pins: 1, 2, 3

## HR961160C
designator CN?
100 Base-TX (Fast Ethernet) SMD RJ45 single port (1x1) with LEDS Integrated Magnetics Connector; Manuf_1: HanRun; Manuf_2: Pulse Electronics Corporation; Manuf_Part_2: J3011G21DNLT; Manuf_3: K.O.D International Holding; Manuf_Part_3: RMT-119A-12F6-GY-04; Distrib: Sub Co; Manuf_Part_1: HR961160C; Order: *
footprint CON_RJ45_J3011G21DNLT (Pulse J3 Series)
pins: 1 LED(Yellow)_A, 2 LED(Yellow)_K, 3 TD+, 4 TD-, 5 TCT, 6 RCT, 7 RD+, 8 RD-, 9 NC, 10 CHS GND, 11 LED(green)_K, 12 LED(green)_A, 13 Shield, 14 Shield

## IC_LAN8742A-CZ-TR
designator U?, comment LAN8742A-CZ-TR
1/1 Transceiver  Ethernet 24-SQFN (4x4); Manufacturer: Microchip Technology; Manufacturer Part Number: LAN8742A-CZ-TR; Manufacturer Link: https://ww1.microchip.com/downloads/en/DeviceDoc/DS_LAN8742_00001989A.pdf; Value: LAN8742A-CZ-TR; RoHS: 3; Temperature Range: 0°C ~ 85°C; Supplier 1: Digi-Key; Supplier 2: Mouser; Supplier Part Number 1: LAN8742A-CZ-CT-ND; Supplier Part Number 2: 579-LAN8742A-CZ-TR
footprint VQFN-24 (24 No Lead, 4x4x0.9mm body, 0.5mm pitch)
footprint HS-VQFN-24 (24 No Lead, 4x4x0.9mm body, 0.5mm pitch, 2.6x2.6mm ePAD)
pins: 1 VDD2A (power), 2 LED2/NINT/NPME/*NINTSEL (io), 3 LED1/NINT/NPME/*REGOFF (io), 4 XTAL2 (out), 5 XTAL1/CLKIN (in), 6 VDDCR (power), 7 RXD1/*MODE1 (io), 8 RXD0/*MODE0 (io), 9 VDDIO (power), 10 RXER/*PHYAD0 (io), 11 CRS_DV/*MODE2 (io), 12 MDIO (io), 13 MDC (in), 14 nINT/REFCLKO (out), 15 nRST (in), 16 TXEN (in), 17 TXD0 (in), 18 TXD1 (in), 19 VDD1A (power), 20 TXN (io), 21 TXP (io), 22 RXN (io), 23 RXP (io), 24 RBIAS (in), 25 GND_EP

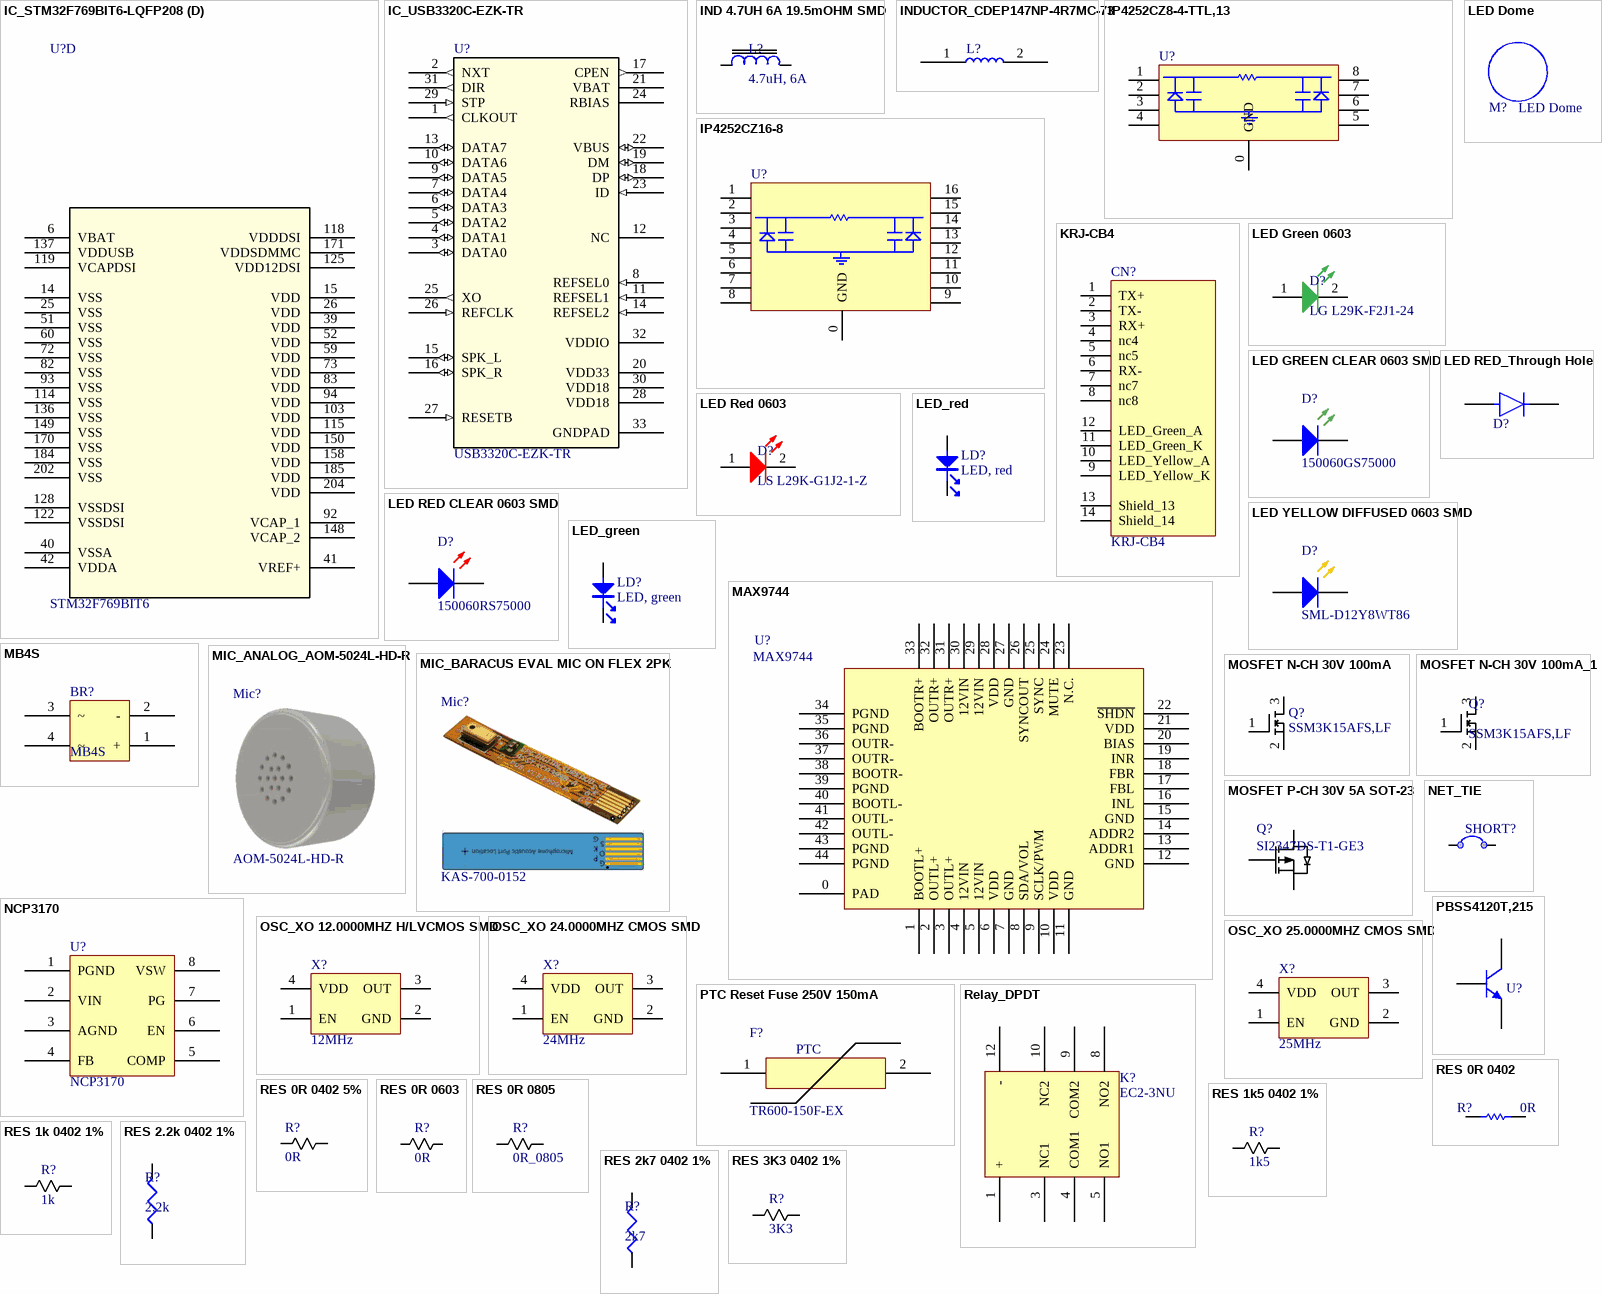
[diagram p2: symbols IC_STM32F769BIT6-LQFP208 to RES 3K3 0402 1%]

## IC_STM32F769BIT6-LQFP208
designator U?, comment STM32F769BIT6
ARM® Cortex®-M7 STM32F7 Microcontroller IC 32-Bit 216MHz 2MB (2M x 8) FLASH 208-LQFP (28x28); Manufacturer: STMicroelectronics; Value: STM32F769BIT6; Manufacturer Link: https://www.st.com/content/ccc/resource/technical/document/datasheet/group3/c5/37/9c/1d/a6/09/4e/1a/DM00273119/files/DM00273119.pdf/jcr:content/translations/en.DM00273119.pdf; Manufacturer Part Number: STM32F769BIT6; RoHS: 3; Temperature Range: -40°C ~ 85°C (TA); Supplier 1: Digi-Key; Supplier 2: Mouser; Supplier Part Number 1: 497-16647-ND; Supplier Part Number 2: 511-STM32F769BIT6
footprint LQFP-208_28X28
footprint HS-LQFP-208_28X28
part A pins: 8 PC13 (io), 9 PC14-OSC32_IN (io), 10 PC15-OSC32_OUT (io), 35 PC0 (io), 36 PC1 (io), 37 PC2 (io), 38 PC3 (io), 43 PA0 (io), 44 PA1 (io), 45 PA2 (io), 50 PA3 (io), 53 PA4 (io), 54 PA5 (io), 55 PA6 (io), 56 PA7 (io), 57 PC4 (io), 58 PC5 (io), 61 PB0 (io), 62 PB1 (io), 63 PB2 (io), 90 PB10 (io), 91 PB11 (io), 104 PB12 (io), 105 PB13 (io), 106 PB14 (io), 107 PB15 (io), 108 PD8 (io), 109 PD9 (io), 110 PD10 (io), 111 PD11 (io), 112 PD12 (io), 113 PD13 (io), 116 PD14 (io), 117 PD15 (io), 138 PC6 (io), 139 PC7 (io), 140 PC8 (io), 141 PC9 (io), 142 PA8 (io), 143 PA9 (io), 144 PA10 (io), 145 PA11 (io), 146 PA12 (io), 147 PA13 (io), 159 PA14 (io), 160 PA15 (io), 161 PC10 (io), 162 PC11 (io), 163 PC12 (io), 164 PD0 (io), 165 PD1 (io), 166 PD2 (io), 167 PD3 (io), 168 PD4 (io), 169 PD5 (io), 172 PD6 (io), 173 PD7 (io), 192 PB3 (io), 193 PB4 (io), 194 PB5 (io), 195 PB6 (io), 196 PB7 (io), 198 PB8 (io), 199 PB9 (io)
part B pins: 1 PE2 (io), 2 PE3 (io), 3 PE4 (io), 4 PE5 (io), 5 PE6 (io), 16 PF0 (io), 17 PF1 (io), 18 PF2 (io), 22 PF3 (io), 23 PF4 (io), 24 PF5 (io), 27 PF6 (io), 28 PF7 (io), 29 PF8 (io), 30 PF9 (io), 31 PF10 (io), 32 PH0-OSC_IN (io), 33 PH1 (io), 46 PH2 (io), 47 PH3 (io), 48 PH4 (io), 49 PH5 (io), 70 PF11 (io), 71 PF12 (io), 74 PF13 (io), 75 PF14 (io), 76 PF15 (io), 77 PG0 (io), 78 PG1 (io), 79 PE7 (io), 80 PE8 (io), 81 PE9 (io), 84 PE10 (io), 85 PE11 (io), 86 PE12 (io), 87 PE13 (io), 88 PE14 (io), 89 PE15 (io), 96 PH6 (io), 97 PH7 (io), 98 PH8 (io), 99 PH9 (io), 100 PH10 (io), 101 PH11 (io), 102 PH12 (io), 129 PG2 (io), 130 PG3 (io), 131 PG4 (io), 132 PG5 (io), 133 PG6 (io), 134 PG7 (io), 135 PG8 (io), 151 PH13 (io), 152 PH14 (io), 153 PH15 (io), 178 PG9 (io), 179 PG10 (io), 180 PG11 (io), 181 PG12 (io), 182 PG13 (io), 183 PG14 (io), 191 PG15 (io), 200 PE0 (io), 201 PE1 (io)
part C pins: 7 PI8 (io), 11 PI9 (io), 12 PI10 (io), 13 PI11 (io), 19 PI12 (io), 20 PI13 (io), 21 PI14 (io), 34 NRST (io), 64 PI15 (io), 65 PJ0 (io), 66 PJ1 (io), 67 PJ2 (io), 68 PJ3 (io), 69 PJ4 (io), 95 PJ5 (io), 120 DSI_D0P (io), 121 DSI_D0N (io), 123 DSI_CKP (io), 124 DSI_CKN (io), 126 DSI_D1P (io), 127 DSI_D1N (io), 154 PI0 (io), 155 PI1 (io), 156 PI2 (io), 157 PI3 (io), 174 PJ12 (io), 175 PJ13 (io), 176 PJ14 (io), 177 PJ15 (io), 186 PK3 (io), 187 PK4 (io), 188 PK5 (io), 189 PK6 (io), 190 PK7 (io), 197 BOOT0 (in), 203 PDR_ON, 205 PI4 (io), 206 PI5 (io), 207 PI6 (io), 208 PI7 (io)
part D pins: 6 VBAT (power), 14 VSS (power), 15 VDD (power), 25 VSS (power), 26 VDD (power), 39 VDD (power), 40 VSSA (power), 41 VREF+ (power), 42 VDDA (power), 51 VSS (power), 52 VDD (power), 59 VDD (power), 60 VSS (power), 72 VSS (power), 73 VDD (power), 82 VSS (power), 83 VDD (power), 92 VCAP_1 (power), 93 VSS (power), 94 VDD (power), 103 VDD (power), 114 VSS (power), 115 VDD (power), 118 VDDDSI (power), 119 VCAPDSI (power), 122 VSSDSI (power), 125 VDD12DSI (power), 128 VSSDSI (power), 136 VSS (power), 137 VDDUSB (power), 148 VCAP_2 (power), 149 VSS (power), 150 VDD (power), 158 VDD (power), 170 VSS (power), 171 VDDSDMMC (power), 184 VSS (power), 185 VDD (power), 202 VSS (power), 204 VDD (power)

## IC_USB3320C-EZK-TR
designator U?, comment USB3320C-EZK-TR
1/1 Transceiver Half USB 2.0 32-QFN (5x5); Manufacturer: Microchip Technology; Manufacturer Part Number: USB3320C-EZK-TR; Manufacturer Link: http://ww1.microchip.com/downloads/en/DeviceDoc/00001792E.pdf; Value: USB3320C-EZK-TR; RoHS: 3; Temperature Range: -40°C ~ 85°C; Supplier 1: Digi-Key; Supplier 2: Mouser; Supplier Part Number 1: USB3320C-EZK-CT-ND; Supplier Part Number 2: 886-USB3320C-EZK-TR
footprint QFN-32 (32-QFN, 5.0x5.0x1mm body, 0.5mm pitch, 3.3x3.3mm ePAD)
footprint HS-QFN-32 (32-QFN, 5.0x5.0x1mm body, 0.5mm pitch, 3.3x3.3mm ePAD)
pins: 1 CLKOUT (out), 2 NXT (out), 3 DATA0 (io), 4 DATA1 (io), 5 DATA2 (io), 6 DATA3 (io), 7 DATA4 (io), 8 REFSEL0 (in), 9 DATA5 (io), 10 DATA6 (io), 11 REFSEL1 (in), 12 NC, 13 DATA7 (io), 14 REFSEL2 (in), 15 SPK_L (io), 16 SPK_R (io), 17 CPEN (out), 18 DP (io), 19 DM (io), 20 VDD33 (power), 21 VBAT (power), 22 VBUS (io), 23 ID (in), 24 RBIAS, 25 XO (out), 26 REFCLK (in), 27 RESETB (in), 28 VDD18 (power), 29 STP (in), 30 VDD18 (power), 31 DIR (out), 32 VDDIO (power), 33 GNDPAD

## IND 4.7UH 6A 19.5mOHM SMD
designator L?, comment 4.7uH, 6A
4.7µH Shielded Wirewound Inductor 6A 19.5mOhm Nonstandard; Manufacturer: Würth Elektronik; Manufacturer Part Number: 744311470; Manufacturer Link: https://www.we-online.de/katalog/datasheet/744311470.pdf; Value: 4.7uH, 6A; Temperature Range: -40°C ~ 150°C; RoHS: ROHS3 Compliant; Supplier 1: Digi-Key; Supplier 2: Mouser; Supplier Part Number 1: 732-1153-1-ND; Supplier Part Number 2: 710-744311470
footprint WE-HCI_7040 (SMT Flat Wire High Current Inductor, body 6.9x6.9mm)
footprint HS-WE-HCI_7040 (SMT Flat Wire High Current Inductor, body 6.9x6.9mm)
pins: 1, 2

## INDUCTOR_CDEP147NP-4R7MC-73
designator L?  (value not drawn)
VALUE: 4.7uH
footprint INDUCTOR_CDEP147NP-4R7MC-73
pins: 1, 2

## IP4252CZ8-4-TTL,13
designator U?, comment IP4252CZ8-4
RC (Pi) EMI Filter 2nd Order Low Pass Channel R = 40Ohms, C = 12pF (Total) 8-UFDFN Exposed Pad; Manufacturer: Nexperia USA Inc.; Manufacturer Part Number: IP4252CZ8-4-TTL,13; Manufacturer Link: https://assets.nexperia.com/documents/data-sheet/IP4251_52_53_54-TTL.pdf; RoHS: Yes; Temperature range °C: -40+85°C; Value: IP4252CZ8-4; Supplier 1: Digi-Key; Supplier 2: Mouser; Supplier Part Number 1: 1727-1267-1-ND; Supplier Part Number 2: 771-IP4252CZ84TTL13
footprint HUSON8_Nexperia (SON, 8-Leads, Body 1.70x1.35mmx0.55, Pitch 0.40mm, Thermal Pad 1.40x0.4mm, IPC Medium Density)
footprint HS-HUSON8_Nexperia (SON, 8-Leads, Body 1.70x1.35mmx0.55, Pitch 0.40mm, Thermal Pad 1.40x0.4mm, IPC Medium Density)
pins: 0 GND (power), 1, 2, 3, 4, 5, 6, 7, 8

## IP4252CZ16-8
designator U?
RC (Pi) EMI Filter 2nd Order Low Pass 8 Channel R = 40 Ohms, C = 12pF (Total) 16-UFDFN Exposed Pad; Manufacturer: Nexperia USA Inc.; Manufacturer Part Number: IP4252CZ16-8-TTL,1; Manufacturer Link: https://assets.nexperia.com/documents/data-sheet/IP4251_52_53_54-TTL.pdf; RoHS: Yes; Supplier 1: Digikey; Supplier 2: Mouser; Supplier Part Number 1: 1727-5675-1-ND; Supplier Part Number 2: 771-IP4252CZ168TTL1; Temperature range °C: -40+85°C; Value: IP4252CZ16-8
footprint HUSON16_Nexperia (SON, 16-Leads, Body 3.30x1.35mmx0.55, Pitch 0.40mm, Thermal Pad 2.80x0.4mm, IPC Medium Density)
footprint HS-HUSON16_Nexperia (SON, 16-Leads, Body 3.30x1.35mmx0.55, Pitch 0.40mm, Thermal Pad 2.80x0.4mm, IPC Medium Density)
pins: 0 GND (power), 1, 2, 3, 4, 5, 6, 7, 8, 9, 10, 11, 12, 13, 14, 15, 16

## KRJ-CB4
designator CN?
100 Base-TX (Fast Ethernet)  RJ45 single port (1x1) with LEDS Integrated Connector; Manuf_1: DGKYD; Manuf_Part_1: KRJ-CB4.2GYZNL; Distrib: Sub Co; Ref St: *; ECCN_US/EU: n/a
footprint RJ45_KRJ-CB4.2GYZNL (Footprint not found)
footprint RJ45_LED_KRJ-CB4R2GYZNL_EM (Footprint not found)
pins: 1 TX+, 2 TX-, 3 RX+, 4 nc4, 5 nc5, 6 RX-, 7 nc7, 8 nc8, 9 LED_Yellow_K, 10 LED_Yellow_A, 11 LED_Green_K, 12 LED_Green_A, 13 Shield_13, 14 Shield_14

## LED Dome
designator M?
LENS WHITE 170DEG DIFFUSER SNAP; Manufacturer: Khatod North America LLC; Manufacturer Part Number: PLJT20; Lens Style: Round with Domed Top; Lens Size: 23mm Dia; Lens Transparency: Diffused; Viewing Angle: 170°; Supplier 1: Digi-Key; RoHS: RoHS Compliant; Category: Optoelectronics; Stock 1: 241; Pricing 1: 1=3.32, 10=2.941, 50=2.1818, 100=1.8972, 250=1.70748 (USD); Part Status: Active; Type: Lens; Color: White; Optical Pattern: Diffuser; For Use With/Related Manufacturer: -; Material: Polycarbonate; Mounting Type: Snap In; ComponentLink1URL: http://download.khatod.com/documents/pljt20_test_report.pdf; ComponentLink1Description: http://download.khatod.com/documents/pljt20_test_report.pdf; Supplier Part Number 1: 1621-1053-ND
footprint LED-Dome

## LED Green 0603
designator D?, comment LG L29K-F2J1-24
LED Green 0603 1V7 Vf 2mA; Manufacturer: OSRAM; Manufacturer Part Number: LG L29K-F2J1-24; Manufacturer Link: https://dammedia.osram.info/media/resource/hires/osram-dam-5662670/LG%20L29K_EN.pdf; Value: LG L29K-F2J1-24; Temperature Range: -40°C ~ +100°C; RoHS: Y; Supplier 1: Digi-Key; Supplier 2: Mouser; Supplier Part Number 1: 475-1193-1-ND; Supplier Part Number 2: 720-LGL29KF2J124Z
footprint 0603 diode
pins: 1 A, 2 K

## LED GREEN CLEAR 0603 SMD
designator D?, comment 150060GS75000
Green 520nm LED Indication - Discrete 3.2V 0603 (1608 Metric); Manufacturer: Würth Elektronik; Value: 150060GS75000; Manufacturer Link: https://katalog.we-online.de/led/datasheet/150060GS75000.pdf; Manufacturer Part Number: 150060GS75000; RoHS: 3; Temperature Range: *; Supplier 1: Digi-Key; Supplier 2: Mouser; Supplier Part Number 1: 732-4971-1-ND; Supplier Part Number 2: 710-150060GS75000
footprint LED-0 (LED; 2 Leads)
simulation model LED0 (Diode)
footprint LED-0603
pins: 1 A, 2 K

## LED Red 0603
designator D?, comment LS L29K-G1J2-1-Z
LED Red 0603 1V8 Vf 2mA; Manufacturer: OSRAM; Manufacturer Part Number: LS L29K-G1J2-1-Z; Manufacturer Link: https://dammedia.osram.info/media/resource/hires/osram-dam-5662679/LS%20L29K_EN.pdf; Value: LS L29K-G1J2-1-Z; Supplier 1: Digi-Key; Supplier 2: Mouser; Supplier 3: Newark; Supplier Part Number 1: 475-2506-1-ND; Supplier Part Number 2: 720-LSL29K-G1J2-1-Z; Supplier Part Number 3: 53K5923
footprint 0603 diode
pins: 1 A, 2 K

## LED RED CLEAR 0603 SMD
designator D?, comment 150060RS75000
Red 625nm LED Indication - Discrete 2V 0603 (1608 Metric); Manufacturer: Würth Elektronik; Value: 150060RS75000; Manufacturer Link: https://katalog.we-online.de/led/datasheet/150060RS75000.pdf; Manufacturer Part Number: 150060RS75000; RoHS: 3; Temperature Range: *; Supplier 1: Digi-Key; Supplier 2: Mouser; Supplier Part Number 1: 732-4978-1-ND; Supplier Part Number 2: 710-150060RS75000
footprint LED-0 (LED; 2 Leads)
simulation model LED0 (Diode)
footprint LED-0603
pins: 1 A, 2 K

## LED RED_Through Hole
designator D?  (value not drawn)
LED RED CLEAR 5MM T/H; Manufacturer: TT Electronics/Optek Technology; Manufacturer Part Number: OVLFR3C7; Configuration: Standard; Lens Color: Colorless; Millicandela Rating: 7400mcd; Lens Style: Round with Domed Top; Lens Size: 5mm, T-1 3/4; Voltage - Forward (Vf) (Typ): 2V; Current - Test: 20mA; Viewing Angle: 30°; Wavelength - Dominant: 623nm; Supplier 1: Digi-Key; RoHS: RoHS Compliant; Category: Optoelectronics; Stock 1: 20743; Pricing 1: 1=0.2, 250=0.19, 500=0.18, 2500=0.17, 5000=0.16, 25000=0.15 (USD); Packaging: Bulk; Part Status: Active; Color: Red; Lens Transparency: Clear; Mounting Type: Through Hole; Wavelength - Peak: -; Features: -; Package / Case: Radial; Supplier Device Package: 5mm; Size / Dimension: -; Height (Max): 8.70mm; ComponentLink1URL: http://www.ttelectronics.com/sites/default/files/download-files/OVLFB3C7.pdf; ComponentLink1Description: http://www.ttelectronics.com/sites/default/files/download-files/OVLFB3C7.pdf; Supplier Part Number 1: 365-1182-ND
footprint LED RED_Through Hole
pins: 0 K, 1 A

## LED YELLOW DIFFUSED 0603 SMD
designator D?, comment SML-D12Y8WT86
Yellow 590nm LED Indication - Discrete 2.2V 0603 (1608 Metric); Manufacturer: Rohm Semiconductor; Value: SML-D12Y8WT86; Manufacturer Link: https://d1d2qsbl8m0m72.cloudfront.net/en/products/databook/datasheet/opto/led/chip_mono/sml-d12x8_d13x8-e.pdf; Manufacturer Part Number: SML-D12Y8WT86; RoHS: 3; Temperature Range: *; Supplier 1: Digi-Key; Supplier 2: Mouser; Supplier Part Number 1: 511-1582-1-ND; Supplier Part Number 2: 755-SML-D12Y8WT86
footprint LED-0 (LED; 2 Leads)
simulation model LED0 (Diode)
footprint LED-0603
pins: 1 A, 2 K

## LED_green
designator LD?, comment LED, green
LED, green, 0603; Manuf_1: everlight; Manuf_Part_1: 19-213SYGC/S530-E2/TR8; ECCN_US/EU: EAR99/NEC; Order: 19-213SYGC/S530-E2/TR8
footprint D0603
footprint 0603D
pins: 1, 2
2 alternate drawings of the same symbol

## LED_red
designator LD?, comment LED, red
LED, red, 0603; Manuf_1: everlight; Manuf_Part_1: 19-213-R6C-AP1Q2B/3T; ECCN_US/EU: EAR99/NEC; Order: 19-213-R6C-AP1Q2B/3T
footprint D0603
footprint 0603D
pins: 1, 2
2 alternate drawings of the same symbol

## MAX9744
designator U?
Amplifier IC 2-Channel (Stereo) Class D 44-TQFN-EP (7x7); Manufacturer: Maxim Integrated; Manufacturer Part Number: MAX9744ETH+T; Value: MAX9744; Manufacturer Link: https://datasheets.maximintegrated.com/en/ds/MAX9744.pdf; RoHS: 3; Temperature Range: -40°C ~ 85°C (TA); Supplier 1: Digi-Key; Supplier 2: Mouser; Supplier Part Number 1: MAX9744ETH+TCT-ND; Supplier Part Number 2: 700-MAX9744ETH+T
footprint AUDIO_AMP_MAX9744
footprint HS-AUDIO_AMP_MAX9744
footprint MAX9744_T4477 (Maxim IC_ 44-Thin QFN 7x7x0.75mm, Exposed Pad 4.78x4.78mm)
pins: 0 PAD, 1 BOOTL+, 2 OUTL+, 3 OUTL+, 4 12VIN, 5 12VIN, 6 VDD, 7 GND, 8 SDA/VOL, 9 SCLK/PWM, 10 VDD, 11 GND, 12 GND, 13 ADDR1, 14 ADDR2, 15 GND, 16 INL, 17 FBL, 18 FBR, 19 INR, 20 BIAS, 21 VDD, 22 ~{SHDN}, 23 N.C., 24 MUTE, 25 SYNC, 26 SYNCOUT, 27 GND, 28 VDD, 29 12VIN, 30 12VIN, 31 OUTR+, 32 OUTR+, 33 BOOTR+, 34 PGND, 35 PGND, 36 OUTR-, 37 OUTR-, 38 BOOTR-, 39 PGND, 40 BOOTL-, 41 OUTL-, 42 OUTL-, 43 PGND, 44 PGND

## MB4S
designator BR?
Bridge Rectifier Single Phase Standard 400V Surface Mount 4-SOIC; Manufacturer: ON Semiconductor; Value: MB4S; Manufacturer Link: https://www.onsemi.com/pub/Collateral/MB8S-D.PDF; Manufacturer Part Number: MB4S; RoHS: 3; Temperature Range: -55°C ~ 150°C (TJ); Supplier 1: Digi-Key; Supplier 2: Mouser; Supplier Part Number 1: MB4SCT-ND; Supplier Part Number 2: 512-MB4S
footprint BRIDGE_MB4S
footprint HS-BRIDGE_MB4S (BRIDGE_MB4S)
pins: 1 +, 2 -, 3 ~, 4 ~

## MIC_ANALOG_AOM-5024L-HD-R
designator Mic?, comment AOM-5024L-HD-R  (mechanical)
20Hz ~ 20kHz Analog Microphone Electret Condenser  Omnidirectional (-24dB ±3dB) Solder Pads; Manufacturer: PUI Audio, Inc.; Manufacturer Part Number: AOM-5024L-HD-R; Manufacturer Link: http://www.puiaudio.com/pdf/AOM-5024L-HD-R.pdf; RoHS: Y; Temperature Range: -30~+70°C; Supplier 1: Digi-Key; Supplier 2: Mouser; Supplier Part Number 1: 668-1596-ND; Supplier Part Number 2: 665-AOM-5024L-HD-R; Value: AOM-5024L-HD-R

## MIC_BARACUS EVAL MIC ON FLEX 2PK
designator Mic?, comment KAS-700-0152  (mechanical)
SPG08P4HM4H-1 MEMS Omnidirectional Microphones Audio Evaluation Board; Manufacturer: Knowles; Manufacturer Part Number: KAS-700-0152; Manufacturer Link: https://media.digikey.com/pdf/Data%20Sheets/Knowles%20Acoustics%20PDFs/KAS-700-0152_PB.pdf; Value: KAS-700-0152; RoHS: Y; Temperature Range: NA; Supplier 1: Digi-Key; Supplier 2: Mouser; Supplier Part Number 1: 423-1443-ND; Supplier Part Number 2: 721-KAS-700-0152

## MOSFET N-CH 30V 100mA
designator Q?, comment SSM3K15AFS,LF
MOSFET N-CH 30V 100mA; Manufacturer: TOSHIBA; Manufacturer Part Number: SSM3K15AFS,LF; Manufacturer Link: https://toshiba.semicon-storage.com/info/docget.jsp?did=5914&prodName=SSM3K15AFS; Value: SSM3K15AFS,LF; Supplier 1: Digi-Key; Supplier 2: Mouser; Supplier Part Number 1: SSM3K15AFSLFCT-ND; Supplier Part Number 2: 757-SSM3K15AFSLF
footprint SOT416 (SOT416, 3-Leads, Body 1.6x0.8mm, Pitch 0.50mm, Lead Span 1.6mm, IPC Medium Density)
footprint HS-SOT416 (SOT416, 3-Leads, Body 1.6x0.8mm, Pitch 0.50mm, Lead Span 1.6mm, IPC Medium Density)
pins: 1 G, 2 S, 3 D

## MOSFET N-CH 30V 100mA_1
designator Q?, comment SSM3K15AFS,LF
MOSFET N-CH 30V 100mA; Manufacturer: TOSHIBA; Manufacturer Part Number: SSM3K15AFS,LF; Manufacturer Link: https://toshiba.semicon-storage.com/info/docget.jsp?did=5914&prodName=SSM3K15AFS; Value: SSM3K15AFS,LF; Supplier 1: Digi-Key; Supplier 2: Mouser; Supplier Part Number 1: SSM3K15AFSLFCT-ND; Supplier Part Number 2: 757-SSM3K15AFSLF
footprint SOT416 (SOT416, 3-Leads, Body 1.6x0.8mm, Pitch 0.50mm, Lead Span 1.6mm, IPC Medium Density)
footprint HS-SOT416 (SOT416, 3-Leads, Body 1.6x0.8mm, Pitch 0.50mm, Lead Span 1.6mm, IPC Medium Density)
pins: 1 G, 2 S, 3 D

## MOSFET P-CH 30V 5A SOT-23
designator Q?, comment SI2347DS-T1-GE3
MOSFET P-CH 30V 5A SOT-23; Manufacturer: Vishay Siliconix; Manufacturer Link: https://www.vishay.com/docs/62827/si2347ds.pdf; Manufacturer Part Number: SI2347DS-T1-GE3; Value: SI2347DS-T1-GE3; Temperature Range: -55°C~150°C (TJ); RoHS: ROHS3 compliant; Supplier 1: Digi-Key; Supplier 2: Mouser; Supplier Part Number 1: SI2347DS-T1-GE3CT-ND; Supplier Part Number 2: 78-SI2347DS-T1-GE3
footprint SOT-23-3
pins: 1 G, 2 S, 3 D

## NCP3170
designator U?
Buck Switching Regulator IC Positive Adjustable 0.8V 1 Output 3A 8-SOIC (0.154", 3.90mm Width); Manufacturer: ON Semiconductor; Manufacturer Part Number: NCP3170ADR2G; Value: NCP3170; Manufacturer Link: http://www.onsemi.com/pub/Collateral/NCP3170-D.PDF; RoHS: 3; Temperature Range: -40°C ~ 85°C (TA); Supplier 1: Digi-Key; Supplier 2: Mouser; Supplier Part Number 1: NCP3170ADR2GOSCT-ND; Supplier Part Number 2: 863-NCP3170ADR2G
footprint SOIC-8-150
pins: 1 PGND, 2 VIN, 3 AGND, 4 FB, 5 COMP, 6 EN, 7 PG, 8 VSW

## NET_TIE
designator SHORT?, comment 0402_SHORT  (value not drawn)  (net tie, no BOM)
NET TIE; Value: 0402_SHORT
footprint 0402-short
pins: 1, 2

## OSC_XO 12.0000MHZ H/LVCMOS SMD
designator X?, comment 12MHz
12MHz XO (Standard) HCMOS, LVCMOS Oscillator 3.3V  4-SMD, No Lead; Manufacturer: SiTIME; Manufacturer Part Number: SIT1602BI-21-33N-12.000000G; Manufacturer Link: https://www.sitime.com/products/lvcmos-oscillators/sit1602; Value: 12MHz; RoHS: ROHS3 Compliant; Temperature Range: -40°C ~ 85°C; Supplier 1: Digi-Key; Supplier 2: Avnet; Supplier Part Number 1: 1473-SIT1602BI-21-33N-12.000000G-ND; Supplier Part Number 2: SIT1602BI-21-33N-12.000000G
footprint SIT1602B_3225 (SiT1602B_3225 Series)
footprint HS-SIT1602B_3225 (HS variant for SiT1602B_3225 Series)
pins: 1 EN, 2 GND, 3 OUT, 4 VDD